# Altium schematic symbol library chip-antennas.SchLib: 1 symbol
Pins are listed as number, name and electrical type; pins without a type are passive.

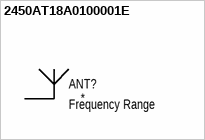
[diagram p0: symbol 2450AT18A0100001E]

## 2450AT18A0100001E
designator ANT?
Frequency Range: Frequency Range
pins: FEED